# Altium schematic symbol library PASSIVE_COMPONENTS.SchLib: 5 symbols
Pins are listed as number, name and electrical type; pins without a type are passive.

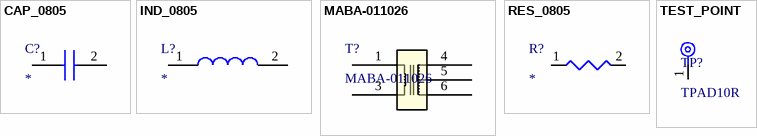
[diagram p0: symbols CAP_0805 to TEST_POINT]

## CAP_0805
designator C?
Capacitor SMD 0805; Height: 0.94mm
footprint CAP_0805 (Capacitor SMD 0805)
pins: 1, 2

## IND_0805
designator L?
Inductor SMD 0805; Manufacturer_Name: Wurth Elektronik; Manufacturer_Part_Number: 74479775147; Height: 1mm; Mouser Part Number: 710-74479775147; Mouser Price/Stock: https://www.mouser.co.uk/ProductDetail/Wurth-Elektronik/74479775147?qs=2kOmHSv6VfSUJsdJ31GFMQ%3D%3D
footprint IND_0805 (Inductor SMD 0805)
pins: 1, 2

## MABA-011026
designator T?
RF Transformer; Manufacturer_Name: MACOM; Frequency Range: 2MHz ~ 200MHz; Impedance: 1:1; Insertion Loss: 1.0dB; Return Loss: 12.0dB; Phase Difference: 0.5°; Copyright: Copyright (C) 2025 Ultra Librarian. All rights reserved.; Manufacturer_Part_Number: MABA-011026; Data Sheet: https://cdn.macom.com/datasheets/MABA-011026.pdf; Package: SMD; ComponentLink1Description: DigiKey; ComponentLink1URL: https://www.digikey.com/en/products/detail/macom-technology-solutions/MABA-011026/12757346
footprint MABA-011026_MCM
pins: 1, 3, 4, 5, 6

## RES_0805
designator R?
Resistor SMD 0805
footprint RES_0805 (Resistor 0805)
footprint RES_0805 (Resistor SMD 0805)
pins: 1, 2

## TEST_POINT
designator TP?, comment TPAD10R
Testpont Pad 10R
footprint TEST_POINT
pins: 1